# Altium footprint library Tank.PcbLib: 288 footprints (part 7 of 18)
Each footprint in its own frame and in the unit in brackets; x right, y up, seen from the top. Pads: shape width x height; smd on the part's side, far side on the other; paste and mask are expansions set on the pad; w line width, h text height; cw(c..) or ccw(c..) is an arc to the next point about the centre after c.
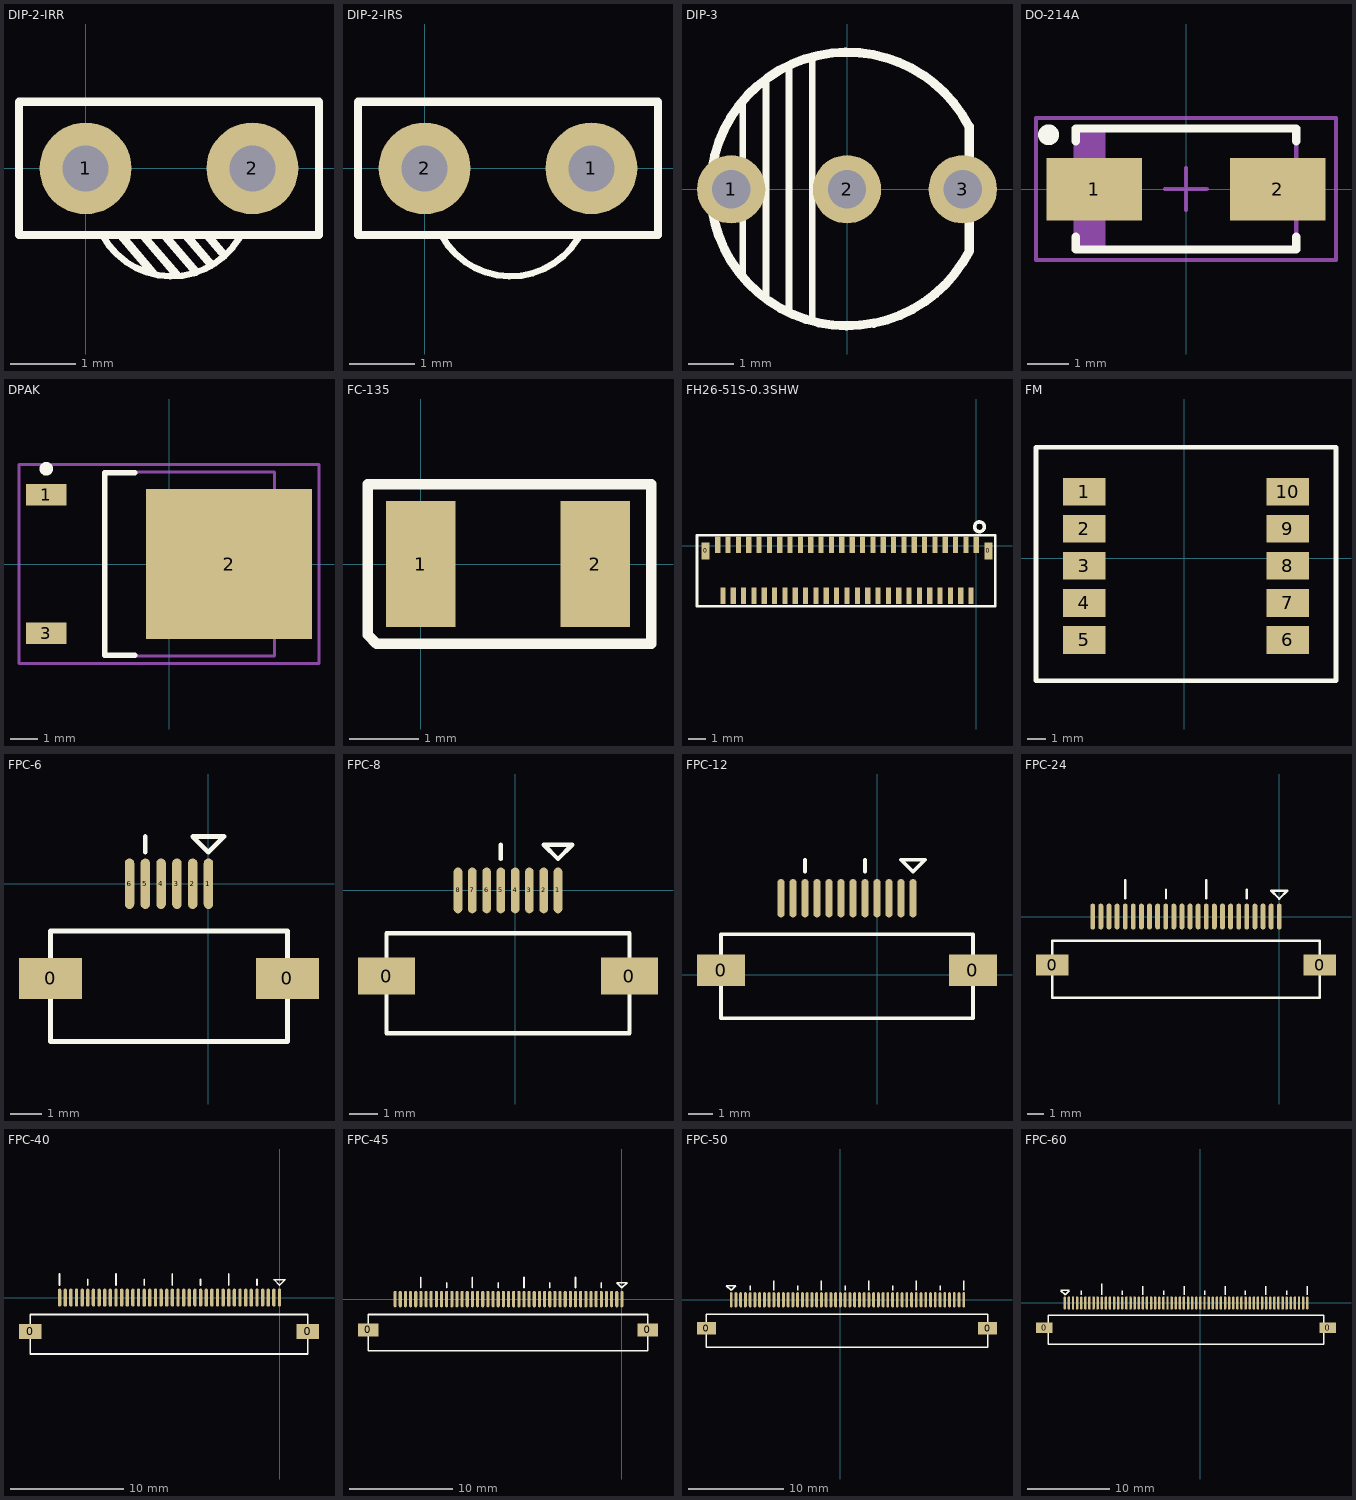
[diagram p6: the footprints below, top view; thin cyan lines are the x and y axes]

## DIP-2-IRR [mm]
pads (2):
  round 1.4 hole 0.7: 1(0,0) 2(2.54,0)
Top Overlay:
  lines w0.1: 0.254,-1.016 ccw(c1.31,-0.446) 2.347,-1.051
  lines w0.127: 0.533,-1.016 1.025,-1.589 ; 0.889,-1.041 1.38,-1.615 ; 1.219,-1.041 1.676,-1.575 ; 1.524,-1.016 1.911,-1.468 ; 1.85,-1.02 2.108,-1.321 ; -1.016,-1.016 3.556,-1.016 3.556,1.016 -1.016,1.016 -1.016,-0.762 -1.016,-1.016

## DIP-2-IRS [mm]
pads (2):
  round 1.4 hole 0.7: 1(2.54,0) 2(0,0)
Top Overlay:
  lines w0.1: 0.254,-1.016 ccw(c1.31,-0.446) 2.347,-1.051
  lines w0.127: -1.016,-1.016 -1.016,-0.762 -1.016,1.016 3.556,1.016 3.556,-1.016 -1.016,-1.016

## DIP-3 [mm]
pads (3):
  round 1.5 hole 0.84: 1(-2.54,0) 2(0,0) 3(2.54,0)
Top Overlay:
  lines w0.15: -2.286,-1.905 -2.286,1.905 ; -1.778,-2.413 -1.778,2.413 ; -1.27,-2.667 -1.27,2.667 ; -0.762,-2.794 -0.762,2.794
  lines w0.2: 2.674,1.382 ccw(c0.007,0.007) 2.682,-1.352 2.682,1.382

## DO-214A [mm]
height 1.6
pads (2):
  rect 2.3x1.5 smd: 1(-2.2,0) 2(2.2,0)
Top Overlay:
  circle w0.25: c-3.3,1.3 r0.125
  lines w0.2: -2.65,-1.15 -2.65,-1.45 2.65,-1.45 2.65,-1.15 ; -2.65,1.15 -2.65,1.45 2.65,1.45 2.65,1.15
Mechanical 13:
  rectangle: -2.645,-1.45 -1.933,1.45
  lines w0.1: -2.645,-1.45 2.645,-1.45 2.645,1.45 -2.645,1.45 -2.645,-1.45
Mechanical 15:
  lines w0.1: -0.5,0 0.5,0 ; 0,-0.5 0,0.5 ; -3.6,-1.7 3.6,-1.7 3.6,1.7 -3.6,1.7 -3.6,-1.7
3D body: height 1.6, standoff 0, extent -2.645,-1.45 2.645,1.45

## DPAK [mm]
height 2.4
pads (3):
  rect 1.5x0.8 smd: 1(-4.5,2.54) 3(-4.5,-2.54)
  rect 6.1x5.5 smd: 2(2.2,0)
Top Overlay:
  circle w0.25: c-4.5,3.49 r0.125
  lines w0.2: -1.25,-3.35 -2.35,-3.35 -2.35,3.35 -1.25,3.35
Mechanical 13:
  lines w0.1: -2.35,-3.375 -2.35,3.375 3.87,3.375 3.87,-3.375 -2.35,-3.375
Mechanical 15:
  lines w0.1: -0.5,0 0.5,0 ; 0,-0.5 0,0.5 ; -5.5,-3.65 -5.5,3.65 5.5,3.65 5.5,-3.65 -5.5,-3.65
3D body: height 2.4, standoff 0.58, extent -2.35,-3.375 3.87,3.375

## FC-135 [mm]
pads (2):
  rect 1x1.8 smd: 1(0,0) 2(2.5,0)
Top Overlay:
  lines w0.15: -0.762,-1.016 -0.635,-1.143 3.302,-1.143 3.302,1.143 -0.762,1.143 -0.762,-1.016

## FH26-51S-0.3SHW [mm]
pads (53):
  rect 0.45x1 smd: 0(-15.7,-0.3) 0(0.7,-0.3)
  rect 0.3x0.95 smd: 1(0,0.05) 2(-0.3,-2.91) 3(-0.6,0.05) 4(-0.9,-2.91) 5(-1.2,0.05) 6(-1.5,-2.91) 7(-1.8,0.05) 8(-2.1,-2.91) 9(-2.4,0.05) 10(-2.7,-2.91) 11(-3,0.05) 12(-3.3,-2.91) 13(-3.6,0.05) 14(-3.9,-2.91) 15(-4.2,0.05) 16(-4.5,-2.91) 17(-4.8,0.05) 18(-5.1,-2.91) 19(-5.4,0.05) 20(-5.7,-2.91) 21(-6,0.05) 22(-6.3,-2.91) 23(-6.6,0.05) 24(-6.9,-2.91) 25(-7.2,0.05) 26(-7.5,-2.91) 27(-7.8,0.05) 28(-8.1,-2.91) 29(-8.4,0.05) 30(-8.7,-2.91) 31(-9,0.05) 32(-9.3,-2.91) 33(-9.6,0.05) 34(-9.9,-2.91) 35(-10.2,0.05) 36(-10.5,-2.91) 37(-10.8,0.05) 38(-11.1,-2.91) 39(-11.4,0.05) 40(-11.7,-2.91) 41(-12,0.05) 42(-12.3,-2.91) 43(-12.6,0.05) 44(-12.9,-2.91) 45(-13.2,0.05) 46(-13.5,-2.91) 47(-13.8,0.05) 48(-14.1,-2.91) 49(-14.4,0.05) 50(-14.7,-2.91) 51(-15,0.05)
Top Overlay:
  circle w0.203: c0.183,1.1 r0.283
  lines w0.152: 1.1,-1.4 1.1,0.6 -16.2,0.6 -16.2,-3.5 1.1,-3.5 1.1,-1.3

## FM [mm]
pads (10):
  rect 2.3x1.5 smd: 1(-5.4,3.6) 2(-5.4,1.6) 3(-5.4,-0.4) 4(-5.4,-2.4) 5(-5.4,-4.4) 6(5.6,-4.4) 7(5.6,-2.4) 8(5.6,-0.4) 9(5.6,1.6) 10(5.6,3.6)
Top Overlay:
  lines w0.254: -8,-6.6 -8,6 8.2,6 8.2,-6.6 -8,-6.6

## FPC-6 [mm]
pads (8):
  rect 2x1.3 smd: 0(-5,-3) 0(2.5,-3)
  oval 0.3x1.6 smd: 1(0,0) 2(-0.5,0) 3(-1,0) 4(-1.5,0) 5(-2,0) 6(-2.5,0)
Top Overlay:
  lines w0.152: -2,1 -2,1.5 ; -5,-5 2.5,-5 2.5,-1.5 -5,-1.5 -5,-5 ; -0.493,1.493 0,1 0.499,1.499 -0.491,1.499 -0.493,1.493

## FPC-8 [mm]
pads (10):
  rect 2x1.3 smd: 0(-4.5,-3) 0(4,-3)
  oval 0.3x1.6 smd: 1(1.5,0) 2(1,0) 3(0.5,0) 4(0,0) 5(-0.5,0) 6(-1,0) 7(-1.5,0) 8(-2,0)
Top Overlay:
  lines w0.152: -0.5,1.1 -0.5,1.6 ; -4.5,-5 4,-5 4,-1.5 -4.5,-1.5 -4.5,-5 ; 1,1.6 1.5,1.1 2,1.6 1,1.6

## FPC-12 [mm]
pads (14):
  rect 2x1.3 smd: 0(-6.5,0.2) 0(4,0.2)
  oval 0.3x1.6 smd: 1(1.5,3.2) 2(1,3.2) 3(0.5,3.2) 4(0,3.2) 5(-0.5,3.2) 6(-1,3.2) 7(-1.5,3.2) 8(-2,3.2) 9(-2.5,3.2) 10(-3,3.2) 11(-3.5,3.2) 12(-4,3.2)
Top Overlay:
  lines w0.152: -3,4.3 -3,4.8 ; -0.5,4.3 -0.5,4.8 ; -6.5,-1.8 4,-1.8 4,1.7 -6.5,1.7 -6.5,-1.8 ; 1,4.8 1.5,4.3 2,4.8 1,4.8

## FPC-24 [mm]
pads (26):
  rect 2x1.3 smd: 0(-14,-3) 0(2.5,-3)
  oval 0.3x1.6 smd: 1(0,0) 2(-0.5,0) 3(-1,0) 4(-1.5,0) 5(-2,0) 6(-2.5,0) 7(-3,0) 8(-3.5,0) 9(-4,0) 10(-4.5,0) 11(-5,0) 12(-5.5,0) 13(-6,0) 14(-6.5,0) 15(-7,0) 16(-7.5,0) 17(-8,0) 18(-8.5,0) 19(-9,0) 20(-9.5,0) 21(-10,0) 22(-10.5,0) 23(-11,0) 24(-11.5,0)
Top Overlay:
  lines w0.152: -9.499,1.14 -9.499,2.232 ; -6.984,1.14 -6.984,1.64 ; -4.495,1.14 -4.495,2.232 ; -2.006,1.14 -2.006,1.64 ; -14,-5 -14,-1.5 2.5,-1.5 2.5,-5 -14,-5 ; -0.5,1.6 0.5,1.6 0,1.1 -0.5,1.6

## FPC-40 [mm]
pads (42):
  rect 2x1.3 smd: 0(-22.1,-3) 0(2.5,-3)
  oval 0.3x1.6 smd: 1(0,0) 2(-0.5,0) 3(-1,0) 4(-1.5,0) 5(-2,0) 6(-2.5,0) 7(-3,0) 8(-3.5,0) 9(-4,0) 10(-4.5,0) 11(-5,0) 12(-5.5,0) 13(-6,0) 14(-6.5,0) 15(-7,0) 16(-7.5,0) 17(-8,0) 18(-8.5,0) 19(-9,0) 20(-9.5,0) 21(-10,0) 22(-10.5,0) 23(-11,0) 24(-11.5,0) 25(-12,0) 26(-12.5,0) 27(-13,0) 28(-13.5,0) 29(-14,0) 30(-14.5,0) 31(-15,0) 32(-15.5,0) 33(-16,0) 34(-16.5,0) 35(-17,0) 36(-17.5,0) 37(-18,0) 38(-18.5,0) 39(-19,0) 40(-19.5,0)
Top Overlay:
  lines w0.14: -0.5,1.6 0,1.1 0.5,1.6 -0.5,1.6
  lines w0.152: -19.5,1.1 -19.5,2.1 ; -17,1.1 -17,1.6 ; -14.5,1.1 -14.5,2.1 ; -12,1.1 -12,1.6 ; -9.5,1.1 -9.5,2.1 ; -7,1.1 -7,1.6 ; -4.5,1.1 -4.5,2.1 ; -2,1.1 -2,1.6 ; -22.1,-5 2.5,-5 2.5,-1.5 -22.1,-1.5 -22.1,-5

## FPC-45 [mm]
pads (47):
  rect 2x1.3 smd: 0(-24.6,-3) 0(2.5,-3)
  oval 0.3x1.6 smd: 1(0,0) 2(-0.5,0) 3(-1,0) 4(-1.5,0) 5(-2,0) 6(-2.5,0) 7(-3,0) 8(-3.5,0) 9(-4,0) 10(-4.5,0) 11(-5,0) 12(-5.5,0) 13(-6,0) 14(-6.5,0) 15(-7,0) 16(-7.5,0) 17(-8,0) 18(-8.5,0) 19(-9,0) 20(-9.5,0) 21(-10,0) 22(-10.5,0) 23(-11,0) 24(-11.5,0) 25(-12,0) 26(-12.5,0) 27(-13,0) 28(-13.5,0) 29(-14,0) 30(-14.5,0) 31(-15,0) 32(-15.5,0) 33(-16,0) 34(-16.5,0) 35(-17,0) 36(-17.5,0) 37(-18,0) 38(-18.5,0) 39(-19,0) 40(-19.5,0) 41(-20,0) 42(-20.5,0) 43(-21,0) 44(-21.5,0) 45(-22,0)
Top Overlay:
  lines w0.14: -0.5,1.6 0.5,1.6 0,1.1 -0.5,1.6
  lines w0.152: -19.5,1.1 -19.5,2.1 ; -17,1.1 -17,1.6 ; -14.5,1.1 -14.5,2.1 ; -12,1.1 -12,1.6 ; -9.5,1.1 -9.5,2.1 ; -7,1.1 -7,1.6 ; -4.5,1.1 -4.5,2.1 ; -2,1.1 -2,1.6 ; -24.6,-5 -24.6,-1.5 2.5,-1.5 2.5,-5 -24.6,-5

## FPC-50 [mm]
pads (52):
  rect 2x1.3 smd: 0(-14.1,-3) 0(15.5,-3)
  oval 0.3x1.6 smd: 1(-11.5,0) 2(-11,0) 3(-10.5,0) 4(-10,0) 5(-9.5,0) 6(-9,0) 7(-8.5,0) 8(-8,0) 9(-7.5,0) 10(-7,0) 11(-6.5,0) 12(-6,0) 13(-5.5,0) 14(-5,0) 15(-4.5,0) 16(-4,0) 17(-3.5,0) 18(-3,0) 19(-2.5,0) 20(-2,0) 21(-1.5,0) 22(-1,0) 23(-0.5,0) 24(0,0) 25(0.5,0) 26(1,0) 27(1.5,0) 28(2,0) 29(2.5,0) 30(3,0) 31(3.5,0) 32(4,0) 33(4.5,0) 34(5,0) 35(5.5,0) 36(6,0) 37(6.5,0) 38(7,0) 39(7.5,0) 40(8,0) 41(8.5,0) 42(9,0) 43(9.5,0) 44(10,0) 45(10.5,0) 46(11,0) 47(11.5,0) 48(12,0) 49(12.5,0) 50(13,0)
Top Overlay:
  lines w0.14: -12,1.5 -11,1.5 -11.5,1 -12,1.5
  lines w0.152: -9.5,1 -9.5,1.5 ; -7,1 -7,2 ; -4.5,1 -4.5,1.5 ; -2,1 -2,2 ; 0.5,1 0.5,1.5 ; 3,1 3,2 ; 5.5,1 5.5,1.5 ; 8,1 8,2 ; 10.5,1 10.5,1.5 ; 13,1 13,2 ; -14.1,-5 -14.1,-1.5 15.5,-1.5 15.5,-5 -14.1,-5

## FPC-60 [mm]
pads (62):
  rect 2x1.3 smd: 0(-19,-3) 0(15.5,-3)
  oval 0.3x1.6 smd: 1(-16.5,0) 2(-16,0) 3(-15.5,0) 4(-15,0) 5(-14.5,0) 6(-14,0) 7(-13.5,0) 8(-13,0) 9(-12.5,0) 10(-12,0) 11(-11.5,0) 12(-11,0) 13(-10.5,0) 14(-10,0) 15(-9.5,0) 16(-9,0) 17(-8.5,0) 18(-8,0) 19(-7.5,0) 20(-7,0) 21(-6.5,0) 22(-6,0) 23(-5.5,0) 24(-5,0) 25(-4.5,0) 26(-4,0) 27(-3.5,0) 28(-3,0) 29(-2.5,0) 30(-2,0) 31(-1.5,0) 32(-1,0) 33(-0.5,0) 34(0,0) 35(0.5,0) 36(1,0) 37(1.5,0) 38(2,0) 39(2.5,0) 40(3,0) 41(3.5,0) 42(4,0) 43(4.5,0) 44(5,0) 45(5.5,0) 46(6,0) 47(6.5,0) 48(7,0) 49(7.5,0) 50(8,0) 51(8.5,0) 52(9,0) 53(9.5,0) 54(10,0) 55(10.5,0) 56(11,0) 57(11.5,0) 58(12,0) 59(12.5,0) 60(13,0)
Top Overlay:
  lines w0.152: -16.967,1.524 -15.967,1.524 ; -16.959,1.516 -16.459,1.016 -15.959,1.516 ; -14.478,1.016 -14.478,1.516 ; -11.989,1.016 -11.989,2.316 ; -9.5,1.016 -9.5,1.516 ; -7.01,1.016 -7.01,2.016 ; -4.47,1.016 -4.47,1.516 ; -1.981,1.016 -1.981,2.016 ; 0.508,1.016 0.508,1.516 ; 2.997,1.016 2.997,2.016 ; 5.486,1.016 5.486,1.516 ; 7.976,1.016 7.976,2.016 ; 10.516,1.016 10.516,1.516 ; 13.005,1.016 13.005,2.016 ; -18.5,-5 -18.5,-1.5 15,-1.5 15,-5 -18.5,-5